# Altium footprint library SnapEDApcb.PcbLib: 1 footprints
Each footprint in its own frame and in the unit in brackets; x right, y up, seen from the top. Pads: shape width x height; smd on the part's side, far side on the other; paste and mask are expansions set on the pad; w line width, h text height; cw(c..) or ccw(c..) is an arc to the next point about the centre after c.
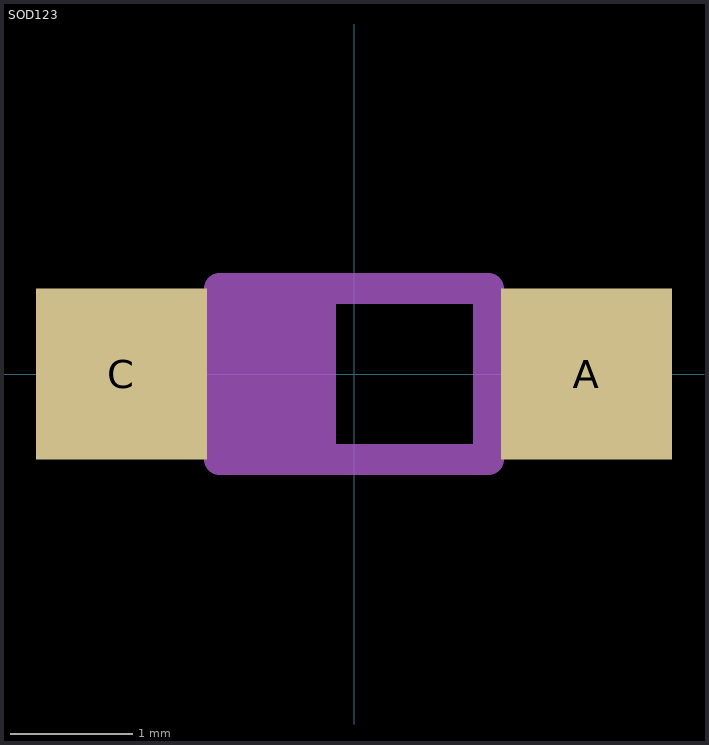
[diagram p0: the footprint, top view; thin cyan lines are the x and y axes]

## SOD123 [mm]
pads (2):
  rect 1.4x1.4 smd: A(1.9,0) C(-1.9,0)
Mechanical 13:
  region: -0.15,-0.65 -1.051,-0.65 -1.051,0.7 -0.15,0.7
  region: 1.95,-0.451 1.202,-0.451 1.202,0.4 1.95,0.4
  region: -1.2,-0.45 -1.952,-0.45 -1.952,0.4 -1.2,0.4
  lines w0.254: -1.1,-0.7 -1.1,0.7 1.1,0.7 1.1,-0.7 -1.1,-0.7
3D body "MBR0520L.STEP": height 1.43, standoff -0.02, extent -1.825,-0.775 1.825,0.775